# Altium schematic symbol library SMF05CT1G_[C15879].Schlib: 1 symbol
Pins are listed as number, name and electrical type; pins without a type are passive.

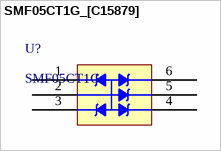
[diagram p0: symbol SMF05CT1G_[C15879]]

## SMF05CT1G_[C15879]
designator U?, comment SMF05CT1G
TVS
footprint SC-70-6(SOT-363)
pins: 1, 2, 3, 4, 5, 6